# EAGLE library part FM24CL64B (library FM24CL64B - 64kb I2C FeRAM)
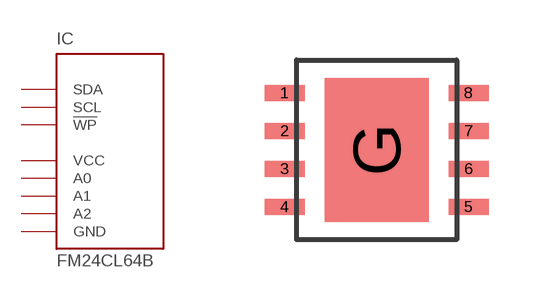
[diagram p0: symbol with the pads of DFN8; footprint DFN8]

Designator prefix IC

## FM24CL64B  [DFN8]
1  A0  hiz
2  A1  hiz
3  A2  hiz
4  GND  pwr
5  SDA
6  SCL  in
7  !WP!  in
8  VCC  pwr
G  GND  pwr

## Footprint DFN8 (pad centres in mm)
smd 1 x 0.4: 1 -2.3,1.425; 2 -2.3,0.475; 3 -2.3,-0.475; 4 -2.3,-1.425; 5 2.3,-1.425; 6 2.3,-0.475; 7 2.3,0.475; 8 2.3,1.425
smd 2.6 x 3.6: G 0,0